# Altium footprint library CONN_HDR_2MM_ST.PcbLib: 49 footprints (part 2 of 4)
Each footprint in its own frame and in the unit in brackets; x right, y up, seen from the top. Pads: shape width x height; smd on the part's side, far side on the other; paste and mask are expansions set on the pad; w line width, h text height; cw(c..) or ccw(c..) is an arc to the next point about the centre after c.
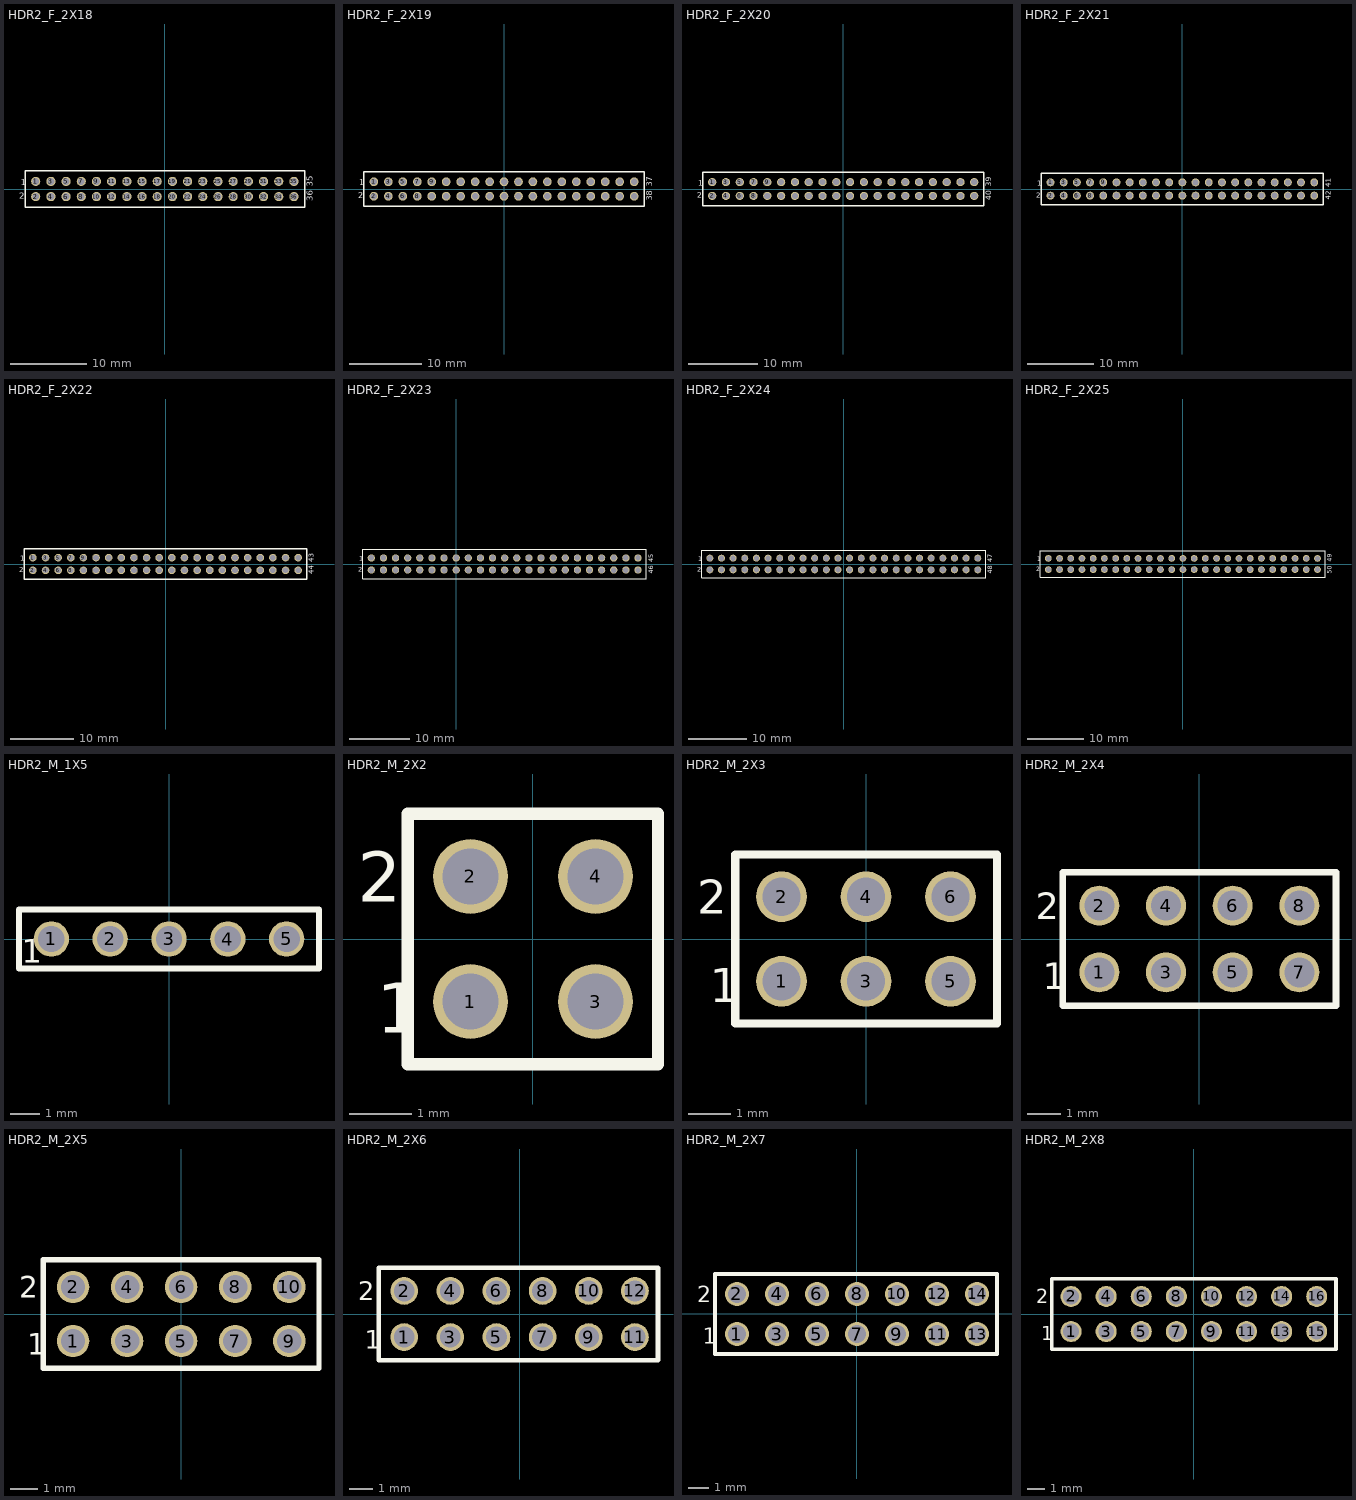
[diagram p1: the footprints below, top view; thin cyan lines are the x and y axes]

## HDR2_F_2X18 [mm] "Connector; Header; 2mm Pitch"
pads (36):
  round 1.2 / inner round 1.2 / far side oval 1.2x1.6 hole 0.9: 1(-17,1) 2(-17,-1) 3(-15,1) 4(-15,-1) 5(-13,1) 6(-13,-1) 7(-11,1) 8(-11,-1) 9(-9,1) 10(-9,-1) 11(-7,1) 12(-7,-1) 13(-5,1) 14(-5,-1) 15(-3,1) 16(-3,-1) 17(-1,1) 18(-1,-1) 19(1,1) 20(1,-1) 21(3,1) 22(3,-1) 23(5,1) 24(5,-1) 25(7,1) 26(7,-1) 27(9,1) 28(9,-1) 29(11,1) 30(11,-1) 31(13,1) 32(13,-1) 33(15,1) 34(15,-1) 35(17,1) 36(17,-1)
Top Overlay:
  lines w0.2: -18.4,-2.4 -18.4,2.4 18.4,2.4 18.4,-2.4 -18.4,-2.4
  text "35" at 19.5,0.3 h0.8
  text "36" at 19.5,-1.6 h0.8
  text "2" at -19.2,-1.3 h0.8
  text "1" at -19,0.5 h0.8
3D body "female_header_a-bl200-dg-g20d.stp": height 4, standoff -2.8, extent -18.25,-2.25 2.25,2.25
3D body "female_header_a-bl200-dg-g16d.stp": height 4, standoff -2.8, extent 1.75,-2.25 18.25,2.25

## HDR2_F_2X19 [mm] "Connector; Header; 2mm Pitch"
pads (38):
  round 1.2 / inner round 1.2 / far side oval 1.2x1.6 hole 0.9: 1(-18,1) 2(-18,-1) 3(-16,1) 4(-16,-1) 5(-14,1) 6(-14,-1) 7(-12,1) 8(-12,-1) 9(-10,1) 10(-10,-1) 11(-8,1) 12(-8,-1) 13(-6,1) 14(-6,-1) 15(-4,1) 16(-4,-1) 17(-2,1) 18(-2,-1) 19(0,1) 20(0,-1) 21(2,1) 22(2,-1) 23(4,1) 24(4,-1) 25(6,1) 26(6,-1) 27(8,1) 28(8,-1) 29(10,1) 30(10,-1) 31(12,1) 32(12,-1) 33(14,1) 34(14,-1) 35(16,1) 36(16,-1) 37(18,1) 38(18,-1)
Top Overlay:
  lines w0.2: -19.4,-2.4 -19.4,2.4 19.4,2.4 19.4,-2.4 -19.4,-2.4
  text "37" at 20.5,0.3 h0.8
  text "38" at 20.5,-1.6 h0.8
  text "2" at -20.2,-1.3 h0.8
  text "1" at -20,0.5 h0.8
3D body "female_header_a-bl200-dg-g08d.stp": height 4, standoff -2.8, extent 0.75,-2.25 9.25,2.25
3D body "female_header_a-bl200-dg-g10d.stp": height 4, standoff -2.8, extent 8.75,-2.25 19.25,2.25
3D body "female_header_a-bl200-dg-g20d.stp": height 4, standoff -2.8, extent -19.25,-2.25 1.25,2.25

## HDR2_F_2X20 [mm] "Connector; Header; 2mm Pitch"
pads (40):
  round 1.2 / inner round 1.2 / far side oval 1.2x1.6 hole 0.9: 1(-19,1) 2(-19,-1) 3(-17,1) 4(-17,-1) 5(-15,1) 6(-15,-1) 7(-13,1) 8(-13,-1) 9(-11,1) 10(-11,-1) 11(-9,1) 12(-9,-1) 13(-7,1) 14(-7,-1) 15(-5,1) 16(-5,-1) 17(-3,1) 18(-3,-1) 19(-1,1) 20(-1,-1) 21(1,1) 22(1,-1) 23(3,1) 24(3,-1) 25(5,1) 26(5,-1) 27(7,1) 28(7,-1) 29(9,1) 30(9,-1) 31(11,1) 32(11,-1) 33(13,1) 34(13,-1) 35(15,1) 36(15,-1) 37(17,1) 38(17,-1) 39(19,1) 40(19,-1)
Top Overlay:
  lines w0.2: -20.4,-2.4 -20.4,2.4 20.4,2.4 20.4,-2.4 -20.4,-2.4
  text "39" at 21.5,0.3 h0.8
  text "40" at 21.5,-1.6 h0.8
  text "2" at -21.2,-1.3 h0.8
  text "1" at -21,0.5 h0.8
3D body "female_header_a-bl200-dg-g20d.stp": height 4, standoff -2.8, extent -20.25,-2.25 0.25,2.25
3D body "female_header_a-bl200-dg-g20d.stp": height 4, standoff -2.8, extent -0.25,-2.25 20.25,2.25

## HDR2_F_2X21 [mm] "Connector; Header; 2mm Pitch"
pads (42):
  round 1.2 / inner round 1.2 / far side oval 1.2x1.6 hole 0.9: 1(-20,1) 2(-20,-1) 3(-18,1) 4(-18,-1) 5(-16,1) 6(-16,-1) 7(-14,1) 8(-14,-1) 9(-12,1) 10(-12,-1) 11(-10,1) 12(-10,-1) 13(-8,1) 14(-8,-1) 15(-6,1) 16(-6,-1) 17(-4,1) 18(-4,-1) 19(-2,1) 20(-2,-1) 21(0,1) 22(0,-1) 23(2,1) 24(2,-1) 25(4,1) 26(4,-1) 27(6,1) 28(6,-1) 29(8,1) 30(8,-1) 31(10,1) 32(10,-1) 33(12,1) 34(12,-1) 35(14,1) 36(14,-1) 37(16,1) 38(16,-1) 39(18,1) 40(18,-1) 41(20,1) 42(20,-1)
Top Overlay:
  lines w0.2: -21.4,-2.4 -21.4,2.4 21.4,2.4 21.4,-2.4 -21.4,-2.4
  text "41" at 22.5,0.3 h0.8
  text "42" at 22.5,-1.6 h0.8
  text "2" at -22.2,-1.3 h0.8
  text "1" at -22,0.5 h0.8
3D body "female_header_a-bl200-dg-g20d.stp": height 4, standoff -2.8, extent -21.25,-2.25 -0.75,2.25
3D body "female_header_a-bl200-dg-g06d.stp": height 4, standoff -2.8, extent 14.75,-2.25 21.25,2.25
3D body "female_header_a-bl200-dg-g16d.stp": height 4, standoff -2.8, extent -1.25,-2.25 15.25,2.25

## HDR2_F_2X22 [mm] "Connector; Header; 2mm Pitch"
pads (44):
  round 1.2 / inner round 1.2 / far side oval 1.2x1.6 hole 0.9: 1(-21,1) 2(-21,-1) 3(-19,1) 4(-19,-1) 5(-17,1) 6(-17,-1) 7(-15,1) 8(-15,-1) 9(-13,1) 10(-13,-1) 11(-11,1) 12(-11,-1) 13(-9,1) 14(-9,-1) 15(-7,1) 16(-7,-1) 17(-5,1) 18(-5,-1) 19(-3,1) 20(-3,-1) 21(-1,1) 22(-1,-1) 23(1,1) 24(1,-1) 25(3,1) 26(3,-1) 27(5,1) 28(5,-1) 29(7,1) 30(7,-1) 31(9,1) 32(9,-1) 33(11,1) 34(11,-1) 35(13,1) 36(13,-1) 37(15,1) 38(15,-1) 39(17,1) 40(17,-1) 41(19,1) 42(19,-1) 43(21,1) 44(21,-1)
Top Overlay:
  lines w0.2: -22.4,-2.4 22.4,-2.4 22.4,2.4 -22.4,2.4 -22.4,-2.4
  text "1" at -23,0.5 h0.8
  text "2" at -23.2,-1.3 h0.8
  text "44" at 23.5,-1.6 h0.8
  text "43" at 23.5,0.3 h0.8
3D body "female_header_a-bl200-dg-g04d.stp": height 4, standoff -2.8, extent 17.75,-2.25 22.25,2.25
3D body "female_header_a-bl200-dg-g20d.stp": height 4, standoff -2.8, extent -2.25,-2.25 18.25,2.25
3D body "female_header_a-bl200-dg-g20d.stp": height 4, standoff -2.8, extent -22.25,-2.25 -1.75,2.25

## HDR2_F_2X23 [mm] "Connector; Header; 2mm Pitch"
pads (46):
  round 1.2 / inner round 1.2 / far side oval 1.2x1.6 hole 0.9: 1(-14,1) 2(-14,-1) 3(-12,1) 4(-12,-1) 5(-10,1) 6(-10,-1) 7(-8,1) 8(-8,-1) 9(-6,1) 10(-6,-1) 11(-4,1) 12(-4,-1) 13(-2,1) 14(-2,-1) 15(0,1) 16(0,-1) 17(2,1) 18(2,-1) 19(4,1) 20(4,-1) 21(6,1) 22(6,-1) 23(8,1) 24(8,-1) 25(10,1) 26(10,-1) 27(12,1) 28(12,-1) 29(14,1) 30(14,-1) 31(16,1) 32(16,-1) 33(18,1) 34(18,-1) 35(20,1) 36(20,-1) 37(22,1) 38(22,-1) 39(24,1) 40(24,-1) 41(26,1) 42(26,-1) 43(28,1) 44(28,-1) 45(30,1) 46(30,-1)
Top Overlay:
  lines w0.2: -15.4,-2.4 -15.4,2.4 31.4,2.4 31.4,-2.4 -15.4,-2.4
  text "45" at 32.5,0.3 h0.8
  text "46" at 32.5,-1.6 h0.8
  text "2" at -16.2,-1.3 h0.8
  text "1" at -16,0.5 h0.8
3D body "female_header_a-bl200-dg-g06d.stp": height 4, standoff -2.8, extent 24.75,-2.25 31.25,2.25
3D body "female_header_a-bl200-dg-g20d.stp": height 4, standoff -2.8, extent -15.25,-2.25 5.25,2.25
3D body "female_header_a-bl200-dg-g20d.stp": height 4, standoff -2.8, extent 4.75,-2.25 25.25,2.25

## HDR2_F_2X24 [mm] "Connector; Header; 2mm Pitch"
pads (48):
  round 1.2 / inner round 1.2 / far side oval 1.2x1.6 hole 0.9: 1(-23,1) 2(-23,-1) 3(-21,1) 4(-21,-1) 5(-19,1) 6(-19,-1) 7(-17,1) 8(-17,-1) 9(-15,1) 10(-15,-1) 11(-13,1) 12(-13,-1) 13(-11,1) 14(-11,-1) 15(-9,1) 16(-9,-1) 17(-7,1) 18(-7,-1) 19(-5,1) 20(-5,-1) 21(-3,1) 22(-3,-1) 23(-1,1) 24(-1,-1) 25(1,1) 26(1,-1) 27(3,1) 28(3,-1) 29(5,1) 30(5,-1) 31(7,1) 32(7,-1) 33(9,1) 34(9,-1) 35(11,1) 36(11,-1) 37(13,1) 38(13,-1) 39(15,1) 40(15,-1) 41(17,1) 42(17,-1) 43(19,1) 44(19,-1) 45(21,1) 46(21,-1) 47(23,1) 48(23,-1)
Top Overlay:
  lines w0.2: -24.4,-2.4 -24.4,2.4 24.4,2.4 24.4,-2.4 -24.4,-2.4
  text "2" at -25.2,-1.3 h0.8
  text "1" at -25,0.5 h0.8
  text "47" at 25.5,0.3 h0.8
  text "48" at 25.5,-1.7 h0.8
3D body "female_header_a-bl200-dg-g08d.stp": height 4, standoff -2.8, extent 15.75,-2.25 24.25,2.25
3D body "female_header_a-bl200-dg-g20d.stp": height 4, standoff -2.8, extent -24.25,-2.25 -3.75,2.25
3D body "female_header_a-bl200-dg-g20d.stp": height 4, standoff -2.8, extent -4.25,-2.25 16.25,2.25

## HDR2_F_2X25 [mm] "Connector; Header; 2mm Pitch"
pads (50):
  round 1.2 / inner round 1.2 / far side oval 1.2x1.6 hole 0.9: 1(-24,1) 2(-24,-1) 3(-22,1) 4(-22,-1) 5(-20,1) 6(-20,-1) 7(-18,1) 8(-18,-1) 9(-16,1) 10(-16,-1) 11(-14,1) 12(-14,-1) 13(-12,1) 14(-12,-1) 15(-10,1) 16(-10,-1) 17(-8,1) 18(-8,-1) 19(-6,1) 20(-6,-1) 21(-4,1) 22(-4,-1) 23(-2,1) 24(-2,-1) 25(0,1) 26(0,-1) 27(2,1) 28(2,-1) 29(4,1) 30(4,-1) 31(6,1) 32(6,-1) 33(8,1) 34(8,-1) 35(10,1) 36(10,-1) 37(12,1) 38(12,-1) 39(14,1) 40(14,-1) 41(16,1) 42(16,-1) 43(18,1) 44(18,-1) 45(20,1) 46(20,-1) 47(22,1) 48(22,-1) 49(24,1) 50(24,-1)
Top Overlay:
  lines w0.2: -25.4,-2.4 -25.4,2.4 25.4,2.4 25.4,-2.4 -25.4,-2.4
  text "2" at -26.2,-1.3 h0.8
  text "1" at -26,0.5 h0.8
  text "49" at 26.5,0.4 h0.8
  text "50" at 26.5,-1.7 h0.8
3D body "female_header_a-bl200-dg-g06d.stp": height 4, standoff -2.8, extent 14.75,-2.25 21.25,2.25
3D body "female_header_a-bl200-dg-g20d.stp": height 4, standoff -2.8, extent -25.25,-2.25 -4.75,2.25
3D body "female_header_a-bl200-dg-g20d.stp": height 4, standoff -2.8, extent -5.25,-2.25 15.25,2.25
3D body "female_header_a-bl200-dg-g04d.stp": height 4, standoff -2.8, extent 20.75,-2.25 25.25,2.25

## HDR2_M_1X5 [mm] "Connector; Header; 2mm Pitch"
pads (5):
  round 1.2 / inner round 1.2 / far side rect 1.2x1.6 hole 0.9: 1(-4,0)
  round 1.2 / inner round 1.2 / far side oval 1.2x1.6 hole 0.9: 2(-2,0) 3(0,0) 4(2,0) 5(4,0)
Top Overlay:
  lines w0.2: -5.1,-1 5.1,-1 5.1,1 -5.1,1 -5.1,-1
  text "1" at -5,-0.8 h0.8

## HDR2_M_2X2 [mm] "Connector; Header; 2mm Pitch"
pads (4):
  round 1.2 / inner round 1.2 / far side oval 1.2x1.6 hole 0.9: 1(-1,-1) 2(-1,1) 3(1,-1) 4(1,1)
Top Overlay:
  lines w0.2: -2,-2 2,-2 2,2 -2,2 -2,-2
  text "1" at -2.5,-1.5 h0.8
  text "2" at -2.8,0.6 h0.8
3D body "pin_header_a-sl200-dg-g04d.stp": height 6, standoff -2.8, extent -1.95,-2 1.95,2

## HDR2_M_2X3 [mm] "Connector; Header; 2mm Pitch"
pads (6):
  round 1.2 / inner round 1.2 / far side oval 1.2x1.6 hole 0.9: 1(-2,-1) 2(-2,1) 3(0,-1) 4(0,1) 5(2,-1) 6(2,1)
Top Overlay:
  lines w0.2: -3.1,-2 3.1,-2 3.1,2 -3.1,2 -3.1,-2
  text "1" at -3.7,-1.5 h0.8
  text "2" at -4,0.6 h0.8
3D body "pin_header_a-sl200-dg-g06d.stp": height 6, standoff -2.8, extent -2.95,-2 2.95,2

## HDR2_M_2X4 [mm] "Connector; Header; 2mm Pitch"
pads (8):
  round 1.2 / inner round 1.2 / far side oval 1.2x1.6 hole 0.9: 1(-3,-1) 2(-3,1) 3(-1,-1) 4(-1,1) 5(1,-1) 6(1,1) 7(3,-1) 8(3,1)
Top Overlay:
  lines w0.2: -4.1,-2 -4.1,2 4.1,2 4.1,-2 -4.1,-2
  text "2" at -4.9,0.6 h0.8
  text "1" at -4.7,-1.5 h0.8
3D body "pin_header_a-sl200-dg-g08d.stp": height 6, standoff -2.8, extent -3.95,-2 3.95,2

## HDR2_M_2X5 [mm] "Connector; Header; 2mm Pitch"
pads (10):
  round 1.2 / inner round 1.2 / far side oval 1.2x1.6 hole 0.9: 1(-4,-1) 2(-4,1) 3(-2,-1) 4(-2,1) 5(0,-1) 6(0,1) 7(2,-1) 8(2,1) 9(4,-1) 10(4,1)
Top Overlay:
  lines w0.2: -5.1,-2 5.1,-2 5.1,2 -5.1,2 -5.1,-2
  text "1" at -5.7,-1.5 h0.8
  text "2" at -6,0.6 h0.8
3D body "pin_header_a-sl200-dg-g10d.stp": height 6, standoff -2.8, extent -4.95,-2 4.95,2

## HDR2_M_2X6 [mm] "Connector; Header; 2mm Pitch"
pads (12):
  round 1.2 / inner round 1.2 / far side oval 1.2x1.6 hole 0.9: 1(-5,-1) 2(-5,1) 3(-3,-1) 4(-3,1) 5(-1,-1) 6(-1,1) 7(1,-1) 8(1,1) 9(3,-1) 10(3,1) 11(5,-1) 12(5,1)
Top Overlay:
  lines w0.2: -6.1,-2 6,-2 6,2 -6.1,2 -6.1,-2
  text "1" at -6.7,-1.5 h0.8
  text "2" at -7,0.6 h0.8
3D body "pin_header_a-sl200-dg-g06d.stp": height 6, standoff -2.8, extent -5.95,-2 -0.05,2
3D body "pin_header_a-sl200-dg-g06d.stp": height 6, standoff -2.8, extent 0.05,-2 5.95,2

## HDR2_M_2X7 [mm] "Connector; Header; 2mm Pitch"
pads (14):
  round 1.2 / inner round 1.2 / far side oval 1.2x1.6 hole 0.9: 1(-6,-1) 2(-6,1) 3(-4,-1) 4(-4,1) 5(-2,-1) 6(-2,1) 7(0,-1) 8(0,1) 9(2,-1) 10(2,1) 11(4,-1) 12(4,1) 13(6,-1) 14(6,1)
Top Overlay:
  lines w0.2: -7.1,-2 7,-2 7,2 -7.1,2 -7.1,-2
  text "1" at -7.7,-1.5 h0.8
  text "2" at -8,0.6 h0.8
3D body "pin_header_a-sl200-dg-g08d.stp": height 6, standoff -2.8, extent -0.95,-2 6.95,2
3D body "pin_header_a-sl200-dg-g06d.stp": height 6, standoff -2.8, extent -6.95,-2 -1.05,2

## HDR2_M_2X8 [mm] "Connector; Header; 2mm Pitch"
pads (16):
  round 1.2 / inner round 1.2 / far side oval 1.2x1.6 hole 0.9: 1(-7,-1) 2(-7,1) 3(-5,-1) 4(-5,1) 5(-3,-1) 6(-3,1) 7(-1,-1) 8(-1,1) 9(1,-1) 10(1,1) 11(3,-1) 12(3,1) 13(5,-1) 14(5,1) 15(7,-1) 16(7,1)
Top Overlay:
  lines w0.2: -8.1,-2 -8.1,2 8.1,2 8.1,-2 -8.1,-2
  text "2" at -9,0.6 h0.8
  text "1" at -8.7,-1.5 h0.8
3D body "pin_header_a-sl200-dg-g16d.stp": height 6, standoff -2.8, extent -7.95,-2 7.95,2